# Altium schematic symbol library AMC3302DWE.SchLib: 1 symbol
Pins are listed as number, name and electrical type; pins without a type are passive.

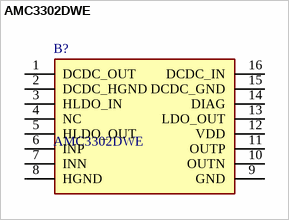
[diagram p0: symbol AMC3302DWE]

## AMC3302DWE
designator B?
Isolation Amplifiers +/-50-mV input, precision reinforced isolated amplifier with integrated DC/DC converter 16-SOIC -40 to 125; Manufacturer_Name: Texas Instruments; Geometry.Height: 2.65mm; Manufacturer_Part_Number: AMC3302DWE; Mouser Part Number: 595-AMC3302DWE; Mouser Price/Stock: https://www.mouser.co.uk/ProductDetail/Texas-Instruments/AMC3302DWE?qs=DRkmTr78QAT3OfY8Rd%252BeWA%3D%3D; Arrow Part Number: AMC3302DWE; Arrow Price/Stock: https://www.arrow.com/en/products/amc3302dwe/texas-instruments?region=nac; Datasheet Link: https://www.ti.com/lit/ds/symlink/amc3302.pdf?ts=1643366130509
footprint SOIC127P1030X265-16N
pins: 1 DCDC_OUT, 2 DCDC_HGND, 3 HLDO_IN, 4 NC, 5 HLDO_OUT, 6 INP, 7 INN, 8 HGND, 9 GND, 10 OUTN, 11 OUTP, 12 VDD, 13 LDO_OUT, 14 DIAG, 15 DCDC_GND, 16 DCDC_IN